# EAGLE library part USB-B-FEMALE (library ld-components)
USB type B receptacle FCI 61729-59796
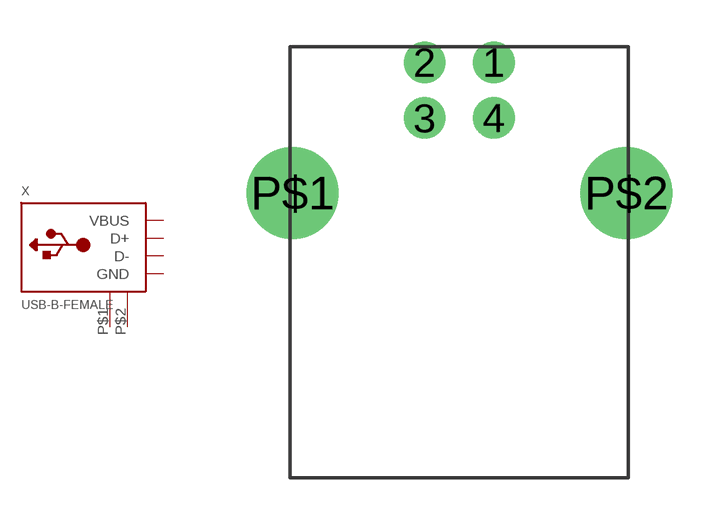
[diagram p8: symbol with the pads of FCI61729; footprint FCI61729]

Designator prefix X

## USB-B-FEMALE  [FCI61729]
1  VBUS  pwr
2  D-
3  D+
4  GND  pwr
P$1  GND1  pwr
P$2  GND2  pwr

## Footprint FCI61729 (pad centres in mm)
drill 1: 1 1.25,4.71; 2 -1.25,4.71; 3 -1.25,2.71; 4 1.25,2.71
drill 2.3: P$1 -6.02,0; P$2 6.02,0